# Altium footprint library SC-70-6.PcbLib: 1 footprints
Each footprint in its own frame and in the unit in brackets; x right, y up, seen from the top. Pads: shape width x height; smd on the part's side, far side on the other; paste and mask are expansions set on the pad; w line width, h text height; cw(c..) or ccw(c..) is an arc to the next point about the centre after c.
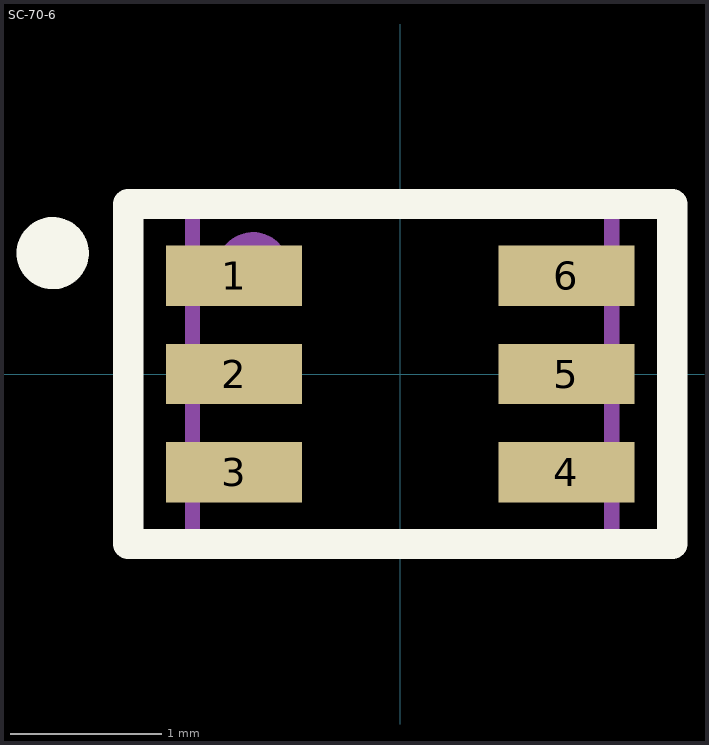
[diagram p0: the footprint, top view; thin cyan lines are the x and y axes]

## SC-70-6 [mm]
pads (6):
  rect 0.9x0.4 smd: 1(-1.1,0.65) 2(-1.1,0) 3(-1.1,-0.65) 4(1.1,-0.65) 5(1.1,0) 6(1.1,0.65)
Top Overlay:
  circle w0.254: c-2.3,0.8 r0.112
  lines w0.2: -1.8,-1.125 -1.8,1.125 1.8,1.125 1.8,-1.125 -1.8,-1.125
Top Assembly:
  circle w0.254: c-0.975,0.7 r0.112
  lines w0.1: -1.375,-1.1 1.4,-1.1 1.4,1.1 -1.375,1.1 -1.375,-1.1
  text "'.Designator'" at -0.775,-0.325 h0.7
3D body "User Library-SC70-6-1.STEP": height 0.95, standoff 0, extent -1.05,-1 1.05,1